# EAGLE library part HSEC8-140 (library NewSDR)
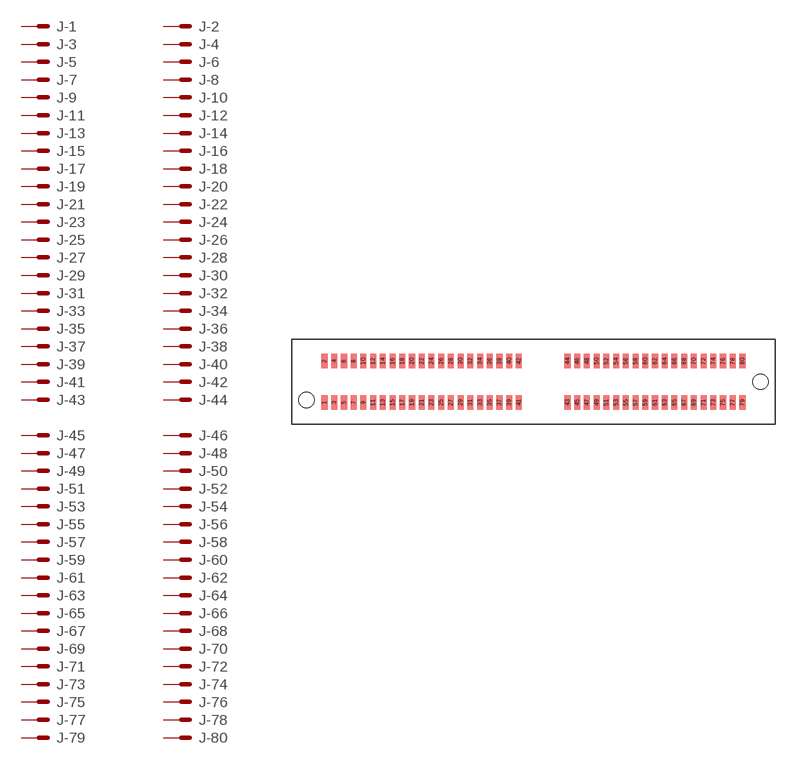
[diagram p93: symbol with the pads of HSEC8-140; footprint HSEC8-140]

Designator prefix J; gates -1=MS -3=MS -5=MS -7=MS -9=MS -11=MS -13=MS -15=MS -17=MS -19=MS -21=MS -23=MS -25=MS -27=MS -29=MS -31=MS -33=MS -35=MS -37=MS -39=MS -41=MS -43=MS -45=MS -47=MS -49=MS -51=MS -53=MS -55=MS -57=MS -59=MS -61=MS -63=MS -65=MS -67=MS -69=MS -71=MS -73=MS -75=MS -77=MS -79=MS -2=MS -4=MS -6=MS -8=MS -10=MS -12=MS -14=MS -16=MS -18=MS -20=MS -22=MS -24=MS -26=MS -28=MS -30=MS -32=MS -34=MS -36=MS -38=MS -40=MS -42=MS -44=MS -46=MS -48=MS -50=MS -52=MS -54=MS -56=MS -58=MS -60=MS -62=MS -64=MS -66=MS -68=MS -70=MS -72=MS -74=MS -76=MS -78=MS -80=MS

## HSEC8-140  [HSEC8-140]
1  -1:MS  pas
2  -2:MS  pas
3  -3:MS  pas
4  -4:MS  pas
5  -5:MS  pas
6  -6:MS  pas
7  -7:MS  pas
8  -8:MS  pas
9  -9:MS  pas
10  -10:MS  pas
11  -11:MS  pas
12  -12:MS  pas
13  -13:MS  pas
14  -14:MS  pas
15  -15:MS  pas
16  -16:MS  pas
17  -17:MS  pas
18  -18:MS  pas
19  -19:MS  pas
20  -20:MS  pas
21  -21:MS  pas
22  -22:MS  pas
23  -23:MS  pas
24  -24:MS  pas
25  -25:MS  pas
26  -26:MS  pas
27  -27:MS  pas
28  -28:MS  pas
29  -29:MS  pas
30  -30:MS  pas
31  -31:MS  pas
32  -32:MS  pas
33  -33:MS  pas
34  -34:MS  pas
35  -35:MS  pas
36  -36:MS  pas
37  -37:MS  pas
38  -38:MS  pas
39  -39:MS  pas
40  -40:MS  pas
41  -41:MS  pas
42  -42:MS  pas
43  -43:MS  pas
44  -44:MS  pas
45  -45:MS  pas
46  -46:MS  pas
47  -47:MS  pas
48  -48:MS  pas
49  -49:MS  pas
50  -50:MS  pas
51  -51:MS  pas
52  -52:MS  pas
53  -53:MS  pas
54  -54:MS  pas
55  -55:MS  pas
56  -56:MS  pas
57  -57:MS  pas
58  -58:MS  pas
59  -59:MS  pas
60  -60:MS  pas
61  -61:MS  pas
62  -62:MS  pas
63  -63:MS  pas
64  -64:MS  pas
65  -65:MS  pas
66  -66:MS  pas
67  -67:MS  pas
68  -68:MS  pas
69  -69:MS  pas
70  -70:MS  pas
71  -71:MS  pas
72  -72:MS  pas
73  -73:MS  pas
74  -74:MS  pas
75  -75:MS  pas
76  -76:MS  pas
77  -77:MS  pas
78  -78:MS  pas
79  -79:MS  pas
80  -80:MS  pas

## Footprint HSEC8-140 (pad centres in mm)
smd 0.5 x 1.2: 1 -17.2,-1.7; 2 -17.2,1.7; 3 -16.4,-1.7; 4 -16.4,1.7; 5 -15.6,-1.7; 6 -15.6,1.7; 7 -14.8,-1.7; 8 -14.8,1.7; 9 -14,-1.7; 10 -14,1.7; 11 -13.2,-1.7; 12 -13.2,1.7; 13 -12.4,-1.7; 14 -12.4,1.7; 15 -11.6,-1.7; 16 -11.6,1.7; 17 -10.8,-1.7; 18 -10.8,1.7; 19 -10,-1.7; 20 -10,1.7; 21 -9.2,-1.7; 22 -9.2,1.7; 23 -8.4,-1.7; 24 -8.4,1.7; 25 -7.6,-1.7; 26 -7.6,1.7; 27 -6.8,-1.7; 28 -6.8,1.7; 29 -6,-1.7; 30 -6,1.7; 31 -5.2,-1.7; 32 -5.2,1.7; 33 -4.4,-1.7; 34 -4.4,1.7; 35 -3.6,-1.7; 36 -3.6,1.7; 37 -2.8,-1.7; 38 -2.8,1.7; 39 -2,-1.7; 40 -2,1.7; 41 -1.2,-1.7; 42 -1.2,1.7; 43 2.8,-1.7; 44 2.8,1.7; 45 3.6,-1.7; 46 3.6,1.7; 47 4.4,-1.7; 48 4.4,1.7; 49 5.2,-1.7; 50 5.2,1.7; 51 6,-1.7; 52 6,1.7; 53 6.8,-1.7; 54 6.8,1.7; 55 7.6,-1.7; 56 7.6,1.7; 57 8.4,-1.7; 58 8.4,1.7; 59 9.2,-1.7; 60 9.2,1.7; 61 10,-1.7; 62 10,1.7; 63 10.8,-1.7; 64 10.8,1.7; 65 11.6,-1.7; 66 11.6,1.7; 67 12.4,-1.7; 68 12.4,1.7; 69 13.2,-1.7; 70 13.2,1.7; 71 14,-1.7; 72 14,1.7; 73 14.8,-1.7; 74 14.8,1.7; 75 15.6,-1.7; 76 15.6,1.7; 77 16.4,-1.7; 78 16.4,1.7; 79 17.2,-1.7; 80 17.2,1.7
hole 1.27 at 18.7,0
hole 1.27 at -18.7,-1.5